# Altium footprint library 2821.PcbLib: 3 footprints
Each footprint in its own frame and in the unit in brackets; x right, y up, seen from the top. Pads: shape width x height; smd on the part's side, far side on the other; paste and mask are expansions set on the pad; w line width, h text height; cw(c..) or ccw(c..) is an arc to the next point about the centre after c.
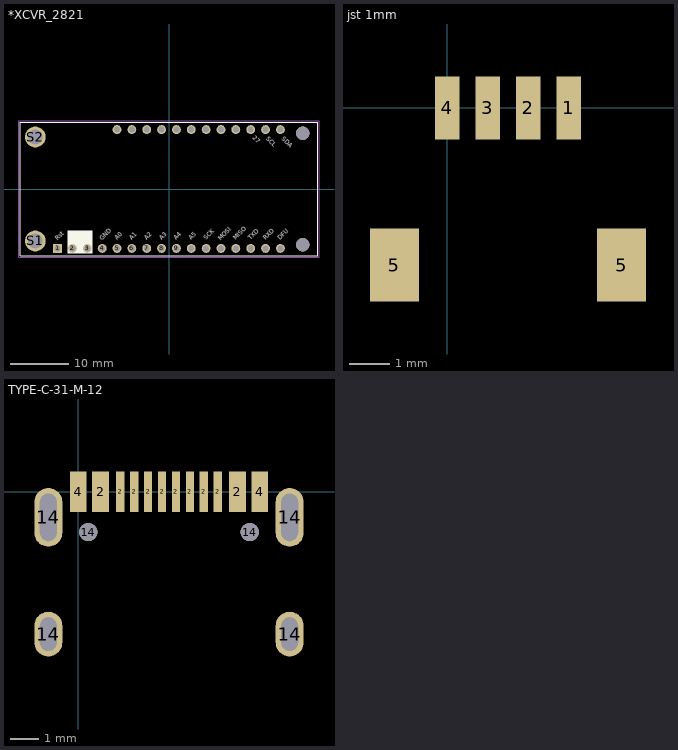
[diagram p0: the footprints below, top view; thin cyan lines are the x and y axes]

## *XCVR_2821 [mm]
pads (32):
  rect 1.508x1.508 hole 1: 1(-19.05,-10.16)
  round 1.508 hole 1: 2(-16.51,-10.16) 3(-13.97,-10.16) 4(-11.43,-10.16) 5(-8.89,-10.16) 6(-6.35,-10.16) 7(-3.81,-10.16) 8(-1.27,-10.16) 9(1.27,-10.16) 10(3.81,-10.16) 11(6.35,-10.16) 12(8.89,-10.16) 13(11.43,-10.16) 14(13.97,-10.16) 15(16.51,-10.16) 16(19.05,-10.16) 17(-8.89,10.16) 18(-6.35,10.16) 19(-3.81,10.16) 20(-1.27,10.16) 21(1.27,10.16) 22(3.81,10.16) 23(6.35,10.16) 24(8.89,10.16) 25(11.43,10.16) 26(13.97,10.16) 27(16.51,10.16) 28(19.05,10.16)
  round 2.286 hole 2.286 unplated: None(22.86,-9.525) None(22.86,9.525)
  round 3.556 hole 2.54: S1(-22.86,-8.89) S2(-22.86,8.89)
Top Overlay:
  rectangle: -17.399,-11.049 -13.081,-7.112
  lines w0.127: -25.4,-11.43 25.4,-11.43 25.4,11.43 -25.4,11.43 -25.4,-11.43
  text "27" at 14.224,8.636 h0.76
  text "SCL" at 16.51,8.509 h0.76
  text "SDA" at 19.177,8.509 h0.76
  text "DFU" at 19.05,-8.763 h0.76
  text "RXD" at 16.51,-8.763 h0.76
  text "TXD" at 13.97,-8.763 h0.76
  text "MISO" at 11.43,-8.763 h0.76
  text "MOSI" at 8.89,-8.89 h0.76
  text "SCK" at 6.35,-8.763 h0.76
  text "A5" at 3.81,-8.763 h0.76
  text "A4" at 1.27,-8.763 h0.76
  text "A3" at -1.27,-8.763 h0.76
  text "A2" at -3.81,-8.763 h0.76
  text "A1" at -6.35,-8.763 h0.76
  text "A0" at -8.89,-8.763 h0.76
  text "GND" at -11.43,-8.89 h0.76
  text "Rst" at -19.05,-8.89 h0.76
Mechanical 16:
  lines w0.05: -25.65,-11.68 25.65,-11.68 25.65,11.68 -25.65,11.68 -25.65,-11.68
Multi-Layer:
  text "3V3" at -16.256,-8.509 h0.76

## jst 1mm [mm]
pads (6):
  rect 0.6x1.55 smd: 1(3,0) 2(2,0) 3(1,0) 4(0,0)
  rect 1.2x1.8 smd: 5(-1.3,-3.875) 5(4.3,-3.875)

## TYPE-C-31-M-12 [mm]
pads (18):
  rect 0.6x1.45 smd: 2(0.8,0) 2(5.7,0) 4(0,0) 4(6.5,0)
  rect 0.3x1.45 smd: 2(1.5,0) 2(2,0) 2(2.5,0) 2(3,0) 2(3.5,0) 2(4,0) 2(4.5,0) 2(5,0)
  oval 1x1.6 hole 1.2 slot 0.6 at 0 deg: 14(-1.07,-5.095) 14(7.57,-5.095)
  oval 1x2.1 hole 1.7 slot 0.6 at 0 deg: 14(-1.07,-0.915) 14(7.57,-0.915)
  round 0.65 hole 0.65: 14(0.36,-1.445) 14(6.14,-1.445)
3D body "USB - C.SLDPRT": height 4.5, standoff 0.24, extent -15.173,39.648 -6.223,47.398